# Altium footprint library CP2102-GMR_QFN28.PcbLib: 2 footprints
Each footprint in its own frame and in the unit in brackets; x right, y up, seen from the top. Pads: shape width x height; smd on the part's side, far side on the other; paste and mask are expansions set on the pad; w line width, h text height; cw(c..) or ccw(c..) is an arc to the next point about the centre after c.
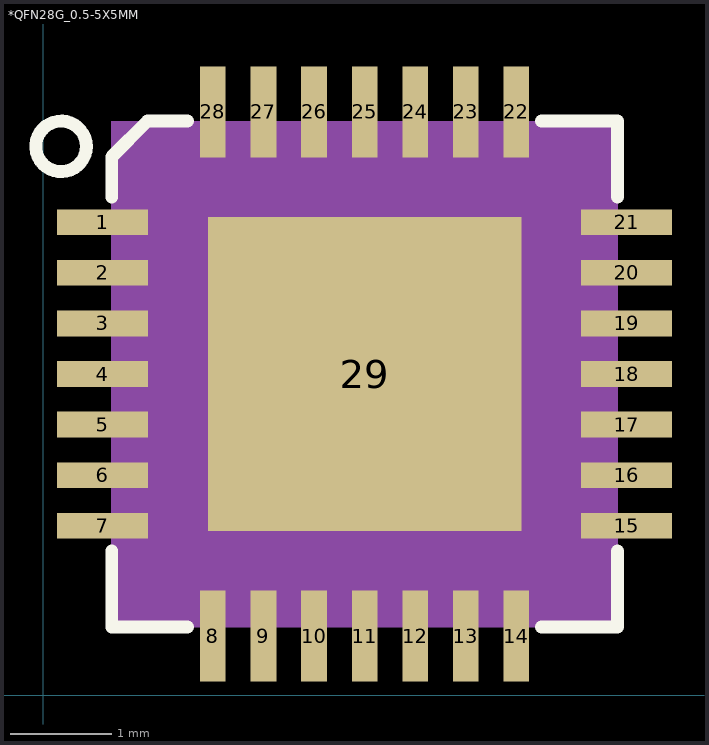
[diagram p0: the footprints below, top view; thin cyan lines are the x and y axes]

## *QFN28G_0.5-5X5MM [mm]
pads (29):
  rect 0.9x0.254 smd: 1(0.585,4.675) 2(0.585,4.175) 3(0.585,3.675) 4(0.585,3.175) 5(0.585,2.675) 6(0.585,2.175) 7(0.585,1.675) 15(5.765,1.675) 16(5.765,2.175) 17(5.765,2.675) 18(5.765,3.175) 19(5.765,3.675) 20(5.765,4.175) 21(5.765,4.675)
  rect 0.254x0.9 smd: 8(1.675,0.585) 9(2.175,0.585) 10(2.675,0.585) 11(3.175,0.585) 12(3.675,0.585) 13(4.175,0.585) 14(4.675,0.585) 22(4.675,5.765) 23(4.175,5.765) 24(3.675,5.765) 25(3.175,5.765) 26(2.675,5.765) 27(2.175,5.765) 28(1.675,5.765)
  rect 3.1x3.1 smd: 29(3.175,3.175)
Top Overlay:
  circle w0.127: c0.175,5.425 r0.25
  lines w0.127: 0.675,1.425 0.675,0.675 1.425,0.675 ; 0.675,4.925 0.675,5.321 1.029,5.675 1.425,5.675 ; 4.925,0.675 5.675,0.675 5.675,1.425 ; 4.925,5.675 5.675,5.675 5.675,4.925
Top Paste:
  region: 3.425,2.925 4.675,2.925 4.675,1.672 3.425,1.672
  region: 1.672,2.925 2.925,2.925 2.925,1.672 1.672,1.672
  region: 3.425,4.675 4.675,4.675 4.675,3.425 3.425,3.425
  region: 1.673,4.675 2.925,4.675 2.925,3.425 1.673,3.425
Mechanical 15:
  region: 0.67,5.675 5.675,5.675 5.675,0.67 0.67,0.67

## PCBComponent_1 [mm]